# Altium footprint library MAX17048G+T10.PcbLib: 1 footprints
Each footprint in its own frame and in the unit in brackets; x right, y up, seen from the top. Pads: shape width x height; smd on the part's side, far side on the other; paste and mask are expansions set on the pad; w line width, h text height; cw(c..) or ccw(c..) is an arc to the next point about the centre after c.
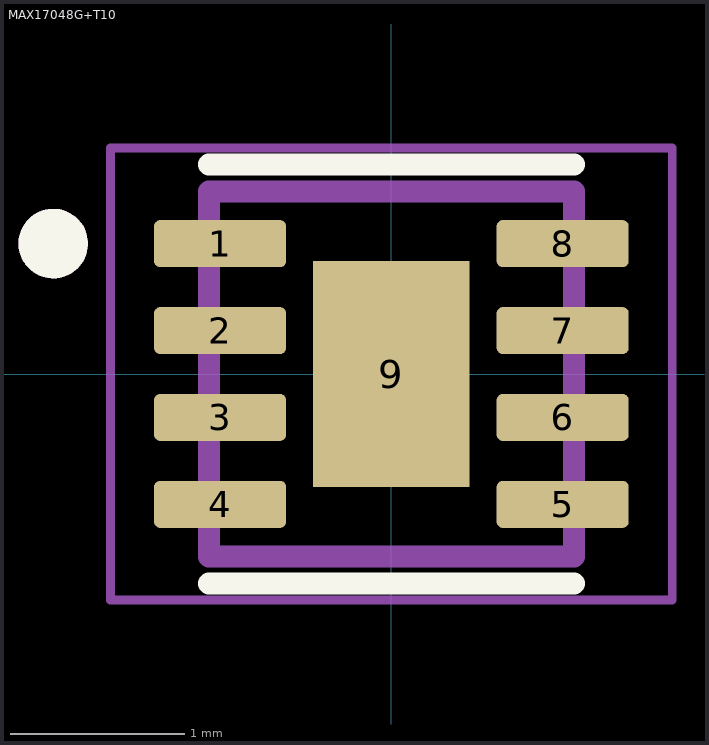
[diagram p0: the footprint, top view; thin cyan lines are the x and y axes]

## MAX17048G+T10 [mm]
pads (9):
  rrect25% 0.76x0.27 smd: 1(-0.985,0.75) 2(-0.985,0.25) 3(-0.985,-0.25) 4(-0.985,-0.75) 5(0.985,-0.75) 6(0.985,-0.25) 7(0.985,0.25) 8(0.985,0.75)
  rect 0.9x1.3 smd paste-2: 9(0,0)
Top Overlay:
  circle w0.2: c-1.945,0.75 r0.1
  lines w0.127: -1.05,-1.205 1.05,-1.205 ; -1.05,1.205 1.05,1.205
Top Paste:
  region: 0.28,-0.41 -0.28,-0.41 -0.28,0.41 0.28,0.41
Mechanical 13:
  circle w0.2: c-1.945,0.75 r0.1
  lines w0.127: -1.05,-1.05 1.05,-1.05 1.05,1.05 -1.05,1.05 -1.05,-1.05
Mechanical 15:
  lines w0.05: -1.615,-1.3 1.615,-1.3 1.615,1.3 -1.615,1.3 -1.615,-1.3
3D body "step_temp.STEP": height 0.8, standoff 0, extent -0.889,-1.016 1.111,0.984